# EAGLE library part PAM2841 (library _mtvl.power)
1.5A SW CURRENT, 40V PRECISION WLED DRIVER https://datasheet.lcsc.com/szlcsc/1810121648_Diodes-Incorporated-PAM2841SR_C153720.pdf https://www.diodes.com/assets/Datasheets/PAM2841.pdf
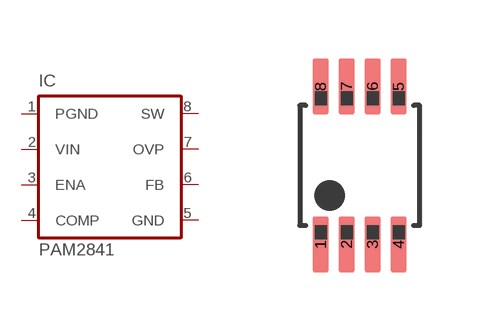
[diagram p13: symbol with the pads of MSOP8_1; footprint MSOP8_1]

Designator prefix IC

## PAM2841SR  [MSOP8_1]
1  PGND
2  VIN
3  ENA
4  COMP
5  GND
6  FB
7  OVP
8  SW

## Footprint MSOP8_1 (pad centres in mm)
https://www.diodes.com/assets/Package-Files/MSOP-8.pdf
smd 0.406 x 1.397: 1 -0.975,-1.975; 2 -0.325,-1.975; 3 0.325,-1.975; 4 0.975,-1.975; 5 0.975,1.975; 6 0.325,1.975; 7 -0.325,1.975; 8 -0.975,1.975